# EAGLE library part FT231XS (library FTDI)
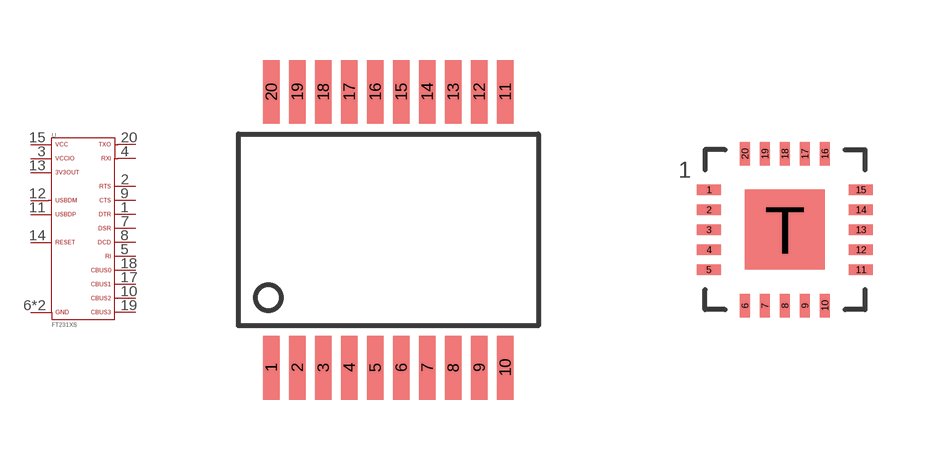
[diagram p1: symbol with the pads of SSOP-20; footprints SSOP-20, WFQFN-20]

Designator prefix U

## FT231XS_SSOP20  [SSOP-20]
1  DTR  pas
2  RTS  pas
3  VCCIO  pas
4  RXD  pas
5  RI  pas
6  GND  pas
7  DSR  pas
8  DCD  pas
9  CTS  pas
10  CBUS2  pas
11  USBDP  pas
12  USBDM  pas
13  3V3OUT  pas
14  RESET  pas
15  VCC  pas
16  GND  pas
17  CBUS1  pas
18  CBUS0  pas
19  CBUS3  pas
20  TXD  pas

## FT231XS_WFQFN20  [WFQFN-20]
1  RXD  pas
2  RI  pas
3  GND  pas
4  DSR  pas
5  DCD  pas
6  CTS  pas
7  CBUS2  pas
8  USBDP  pas
9  USBDM  pas
10  3V3OUT  pas
11  RESET  pas
12  VCC  pas
13  GND  pas
14  CBUS1  pas
15  CBUS0  pas
16  CBUS3  pas
17  TXD  pas
18  DTR  pas
19  RTS  pas
20  VCCIO  pas
T  GND  pas

## Footprint SSOP-20 (pad centres in mm)
smd 0.42 x 1.6: 1 -2.925,-3.45; 2 -2.275,-3.45; 3 -1.625,-3.45; 4 -0.975,-3.45; 5 -0.325,-3.45; 6 0.325,-3.45; 7 0.975,-3.45; 8 1.625,-3.45; 9 2.275,-3.45; 10 2.925,-3.45; 11 2.925,3.45; 12 2.275,3.45; 13 1.625,3.45; 14 0.975,3.45; 15 0.325,3.45; 16 -0.325,3.45; 17 -0.975,3.45; 18 -1.625,3.45; 19 -2.275,3.45; 20 -2.925,3.45

## Footprint WFQFN-20 (pad centres in mm)
smd 0.6 x 0.254: 1 -1.9,1; 2 -1.9,0.5; 3 -1.9,0; 4 -1.9,-0.5; 5 -1.9,-1; 11 1.9,-1; 12 1.9,-0.5; 13 1.9,0; 14 1.9,0.5; 15 1.9,1
smd 0.254 x 0.6: 6 -1,-1.9; 7 -0.5,-1.9; 8 0,-1.9; 9 0.5,-1.9; 10 1,-1.9; 16 1,1.9; 17 0.5,1.9; 18 0,1.9; 19 -0.5,1.9; 20 -1,1.9
smd 2 x 2: T 0,0